# Altium footprint library PCB1.PcbLib: 58 footprints (part 3 of 4)
Each footprint in its own frame and in the unit in brackets; x right, y up, seen from the top. Pads: shape width x height; smd on the part's side, far side on the other; paste and mask are expansions set on the pad; w line width, h text height; cw(c..) or ccw(c..) is an arc to the next point about the centre after c.
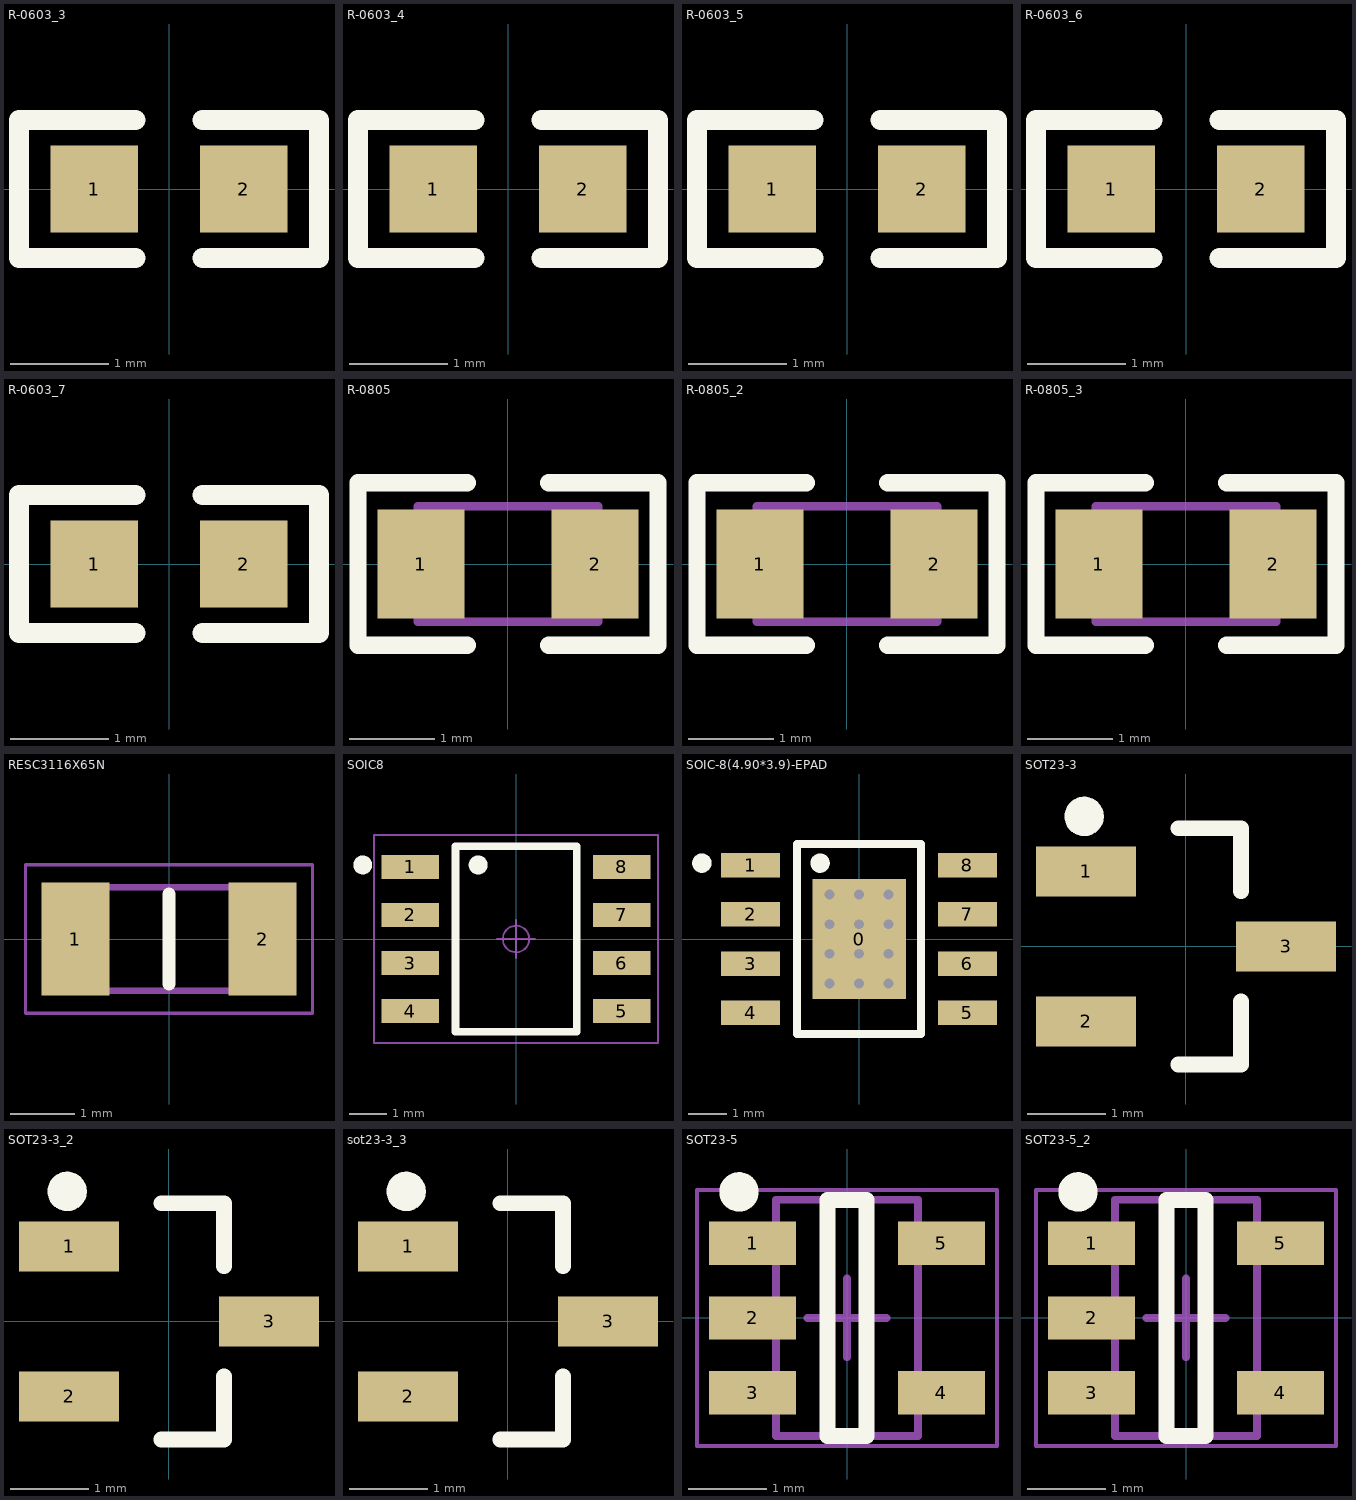
[diagram p2: the footprints below, top view; thin cyan lines are the x and y axes]

## R-0603_3 [mil]
pads (2):
  rect 35x35 smd: 1(-30,0) 2(30,0)
Top Overlay:
  lines w8: -13.36,-27.56 -60,-27.56 -60,27.56 -13.36,27.56 ; 13.36,-27.56 60,-27.56 60,27.56 13.36,27.56

## R-0603_4 [mil]
pads (2):
  rect 35x35 smd: 1(-30,0) 2(30,0)
Top Overlay:
  lines w8: -13.36,-27.56 -60,-27.56 -60,27.56 -13.36,27.56 ; 13.36,-27.56 60,-27.56 60,27.56 13.36,27.56

## R-0603_5 [mil]
pads (2):
  rect 35x35 smd: 1(-30,0) 2(30,0)
Top Overlay:
  lines w8: -13.36,-27.56 -60,-27.56 -60,27.56 -13.36,27.56 ; 13.36,-27.56 60,-27.56 60,27.56 13.36,27.56

## R-0603_6 [mil]
pads (2):
  rect 35x35 smd: 1(-30,0) 2(30,0)
Top Overlay:
  lines w8: -13.36,-27.56 -60,-27.56 -60,27.56 -13.36,27.56 ; 13.36,-27.56 60,-27.56 60,27.56 13.36,27.56

## R-0603_7 [mil]
pads (2):
  rect 35x35 smd: 1(-30,0) 2(30,0)
Top Overlay:
  lines w8: -13.36,-27.56 -60,-27.56 -60,27.56 -13.36,27.56 ; 13.36,-27.56 60,-27.56 60,27.56 13.36,27.56

## R-0805 [mil] "Chip Resistor, 2-Leads, Body 2.00x1.25mm, IPC Medium Density"
height 19.68
pads (2):
  rect 40x50 smd: 1(-40,0) 2(40,0)
Top Overlay:
  lines w8: -18.78,-37.4 -68.9,-37.4 -68.9,37.4 -18.78,37.4 ; 18.78,-37.4 68.9,-37.4 68.9,37.4 18.78,37.4
Mechanical 13:
  lines w3.94: -41.34,-26.57 41.34,-26.57 41.34,26.57 -41.34,26.57 -41.34,-26.57
3D body: height 19.68, standoff 0, extent 27.56,-26.57 41.34,26.57
3D body: height 19.68, standoff 0, extent -41.34,-26.57 -27.56,26.58
3D body: height 19.68, standoff 0, extent -27.56,-26.57 27.56,26.57

## R-0805_2 [mil]
pads (2):
  rect 40x50 smd: 1(-40,0) 2(40,0)
Top Overlay:
  lines w8: -18.78,-37.4 -68.9,-37.4 -68.9,37.4 -18.78,37.4 ; 18.78,-37.4 68.9,-37.4 68.9,37.4 18.78,37.4
Mechanical 13:
  lines w3.94: -41.34,-26.57 41.34,-26.57 41.34,26.57 -41.34,26.57 -41.34,-26.57
3D body: height 19.68, standoff 0, extent 27.56,-26.57 41.34,26.57
3D body: height 19.68, standoff 0, extent -41.34,-26.57 -27.56,26.58
3D body: height 19.68, standoff 0, extent -27.56,-26.57 27.56,26.57

## R-0805_3 [mil]
pads (2):
  rect 40x50 smd: 1(-40,0) 2(40,0)
Top Overlay:
  lines w8: -18.78,-37.4 -68.9,-37.4 -68.9,37.4 -18.78,37.4 ; 18.78,-37.4 68.9,-37.4 68.9,37.4 18.78,37.4
Mechanical 13:
  lines w3.94: -41.34,-26.57 41.34,-26.57 41.34,26.57 -41.34,26.57 -41.34,-26.57
3D body: height 19.68, standoff 0, extent 27.56,-26.57 41.34,26.57
3D body: height 19.68, standoff 0, extent -41.34,-26.57 -27.56,26.58
3D body: height 19.68, standoff 0, extent -27.56,-26.57 27.56,26.57

## RESC3116X65N [mm]
pads (2):
  rect 1.05x1.75 smd: 1(-1.45,0) 2(1.45,0)
Top Overlay:
  lines w0.2: 0,-0.7 0,0.7
Mechanical 13:
  lines w0.1: -1.55,-0.8 1.55,-0.8 1.55,0.8 -1.55,0.8 -1.55,-0.8
Mechanical 15:
  lines w0.05: -2.225,-1.15 2.225,-1.15 2.225,1.15 -2.225,1.15 -2.225,-1.15
3D body "RC1206JR-070RL.stp": height 0.65, standoff 0, extent -1.55,-0.8 1.55,0.8

## SOIC8 [mil]
height 236.22
pads (8):
  rect 60x25 smd: 1(-110,75) 2(-110,25) 3(-110,-25) 4(-110,-75) 5(110,-75) 6(110,-25) 7(110,25) 8(110,75)
Top Overlay:
  circle w9.84: c-39.49,77 r4.92
  circle w9.84: c-159.49,77 r4.92
  lines w7.87: -62.99,-96.46 62.99,-96.46 62.99,96.46 -62.99,96.46 -62.99,-96.46
Mechanical 16:
  circle w1.97: c0,0 r13.78
  lines w1.97: -19.68,0 19.68,0 ; 0,-19.68 0,19.68 ; -147.64,-108.27 -147.64,108.27 147.64,108.27 147.64,-108.27 -147.64,-108.27

## SOIC-8(4.90*3.9)-EPAD [mil] "SOIC, 8-Leads, Body 4.90x3.90mm, Pitch 1.27mm, IPC Medium Density"
height 68.9
pads (9):
  rect 94.88x122.05 smd: 0(0,0)
  rect 60x25 smd: 1(-110,75) 2(-110,25) 3(-110,-25) 4(-110,-75) 5(110,-75) 6(110,-25) 7(110,25) 8(110,75)
via 30,-15 diameter 20 hole 10
via 30,15 diameter 20 hole 10
via 30,45 diameter 20 hole 10
via 0,-15 diameter 20 hole 10
via 0,15 diameter 20 hole 10
via 0,45 diameter 20 hole 10
via -30,45 diameter 20 hole 10
via 30,-45 diameter 20 hole 10
via 0,-45 diameter 20 hole 10
via -30,-45 diameter 20 hole 10
via -30,15 diameter 20 hole 10
via -30,-15 diameter 20 hole 10
Top Overlay:
  circle w9.84: c-159.49,77 r4.92
  circle w9.84: c-39.49,77 r4.92
  lines w7.87: -62.99,-96.46 -62.99,96.46 62.99,96.46 62.99,-96.46 -62.99,-96.46
Mechanical 15:
  lines w1.97: -19.69,0 19.69,0 ; 0,-19.68 0,19.68
  lines w3.94: -19.68,0 19.69,0 ; 0,-19.68 0,19.69
Mechanical 16:
  circle w1.97: c0,0 r13.78
  circle w1.97: c0,0 r13.78

## SOT23-3 [mil] "SOT23, 3-Leads, Body 2.92x2.78mm, Pitch 0.95mm, IPC Medium Density"
height 49.21
pads (3):
  rect 50x25 smd: 1(-50,37.5) 2(-50,-37.5) 3(50,0)
Top Overlay:
  circle w9.84: c-50.92,65 r4.92
  lines w7.87: -3.94,-59.06 27.56,-59.06 27.56,-27.56 ; -3.94,59.06 27.56,59.06 27.56,27.56

## SOT23-3_2 [mil]
pads (3):
  rect 50x25 smd: 1(-50,37.5) 2(-50,-37.5) 3(50,0)
Top Overlay:
  circle w9.84: c-50.92,65 r4.92
  lines w7.87: -3.94,-59.06 27.56,-59.06 27.56,-27.56 ; -3.94,59.06 27.56,59.06 27.56,27.56

## sot23-3_3 [mil]
pads (3):
  rect 50x25 smd: 1(-50,37.5) 2(-50,-37.5) 3(50,0)
Top Overlay:
  circle w9.84: c-50.92,65 r4.92
  lines w7.87: -3.94,-59.06 27.56,-59.06 27.56,-27.56 ; -3.94,59.06 27.56,59.06 27.56,27.56

## SOT23-5 [mm] "SOT23, 5-Leads, Body 2.90x2.80mm, Pitch 0.95mm, IPC Medium Density"
height 1
pads (5):
  rect 1.1x0.55 smd: 1(-1.2,0.95) 2(-1.2,0) 3(-1.2,-0.95) 4(1.2,-0.95) 5(1.2,0.95)
Top Overlay:
  circle w0.25: c-1.372,1.6 r0.125
  lines w0.203: -0.25,-1.5 -0.25,1.5 0.25,1.5 0.25,-1.5 -0.25,-1.5
Mechanical 13:
  lines w0.1: -0.9,-1.5 0.9,-1.5 0.9,1.5 -0.9,1.5 -0.9,-1.5
Mechanical 15:
  lines w0.05: -1.905,-1.626 1.905,-1.626 1.905,1.626 -1.905,1.626 -1.905,-1.626
  lines w0.1: -0.5,0 0.5,0 ; 0,-0.5 0,0.5
3D body: height 1, standoff 0.12, extent -0.9,-1.5 0.9,1.5

## SOT23-5_2 [mm]
pads (5):
  rect 1.1x0.55 smd: 1(-1.2,0.95) 2(-1.2,0) 3(-1.2,-0.95) 4(1.2,-0.95) 5(1.2,0.95)
Top Overlay:
  circle w0.25: c-1.372,1.6 r0.125
  lines w0.203: -0.25,-1.5 0.25,-1.5 0.25,1.5 -0.25,1.5 -0.25,-1.5
Mechanical 13:
  lines w0.1: -0.9,-1.5 -0.9,1.5 0.9,1.5 0.9,-1.5 -0.9,-1.5
Mechanical 15:
  lines w0.05: -1.905,-1.626 -1.905,1.626 1.905,1.626 1.905,-1.626 -1.905,-1.626
  lines w0.1: -0.5,0 0.5,0 ; 0,-0.5 0,0.5
3D body: height 1, standoff 0.12, extent -0.9,-1.5 0.9,1.5